# Altium integrated library DCDC24_6.IntLib: 2 symbols
Pins are listed as number, name and electrical type; pins without a type are passive.

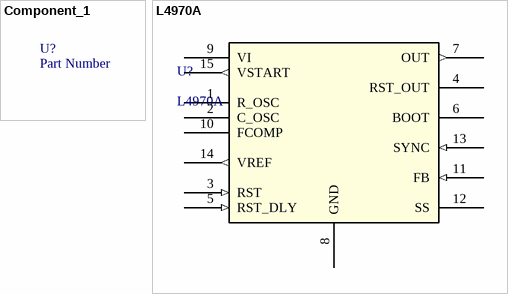
[diagram p0: symbols Component_1 to L4970A]

## Component_1
designator U?, comment Part Number
XXX - Description - Package; GRAMS Lib Spec: 2.7

## L4970A
designator U?
No Description Available; SourceLibrary: Updates_to_database_2020-11-02; Built_By: EMA_UL_Team; Vendor: STMicroelectronics; Manufacturer_Part_Number: L4970A; Copyright: Copyright (C) 2018 Accelerated Designs. All rights reserved; RefDes: RefDes; Type: DEV
footprint Multiwatt15_V_STM
pins: 1 R_OSC, 2 C_OSC, 3 RST (in), 4 RST_OUT, 5 RST_DLY (in), 6 BOOT, 7 OUT (out), 8 GND (power), 9 VI (power), 10 FCOMP, 11 FB (in), 12 SS, 13 SYNC (in), 14 VREF (out), 15 VSTART (out)